# Altium footprint library Inductors.PcbLib: 21 footprints (part 2 of 2)
Each footprint in its own frame and in the unit in brackets; x right, y up, seen from the top. Pads: shape width x height; smd on the part's side, far side on the other; paste and mask are expansions set on the pad; w line width, h text height; cw(c..) or ccw(c..) is an arc to the next point about the centre after c.
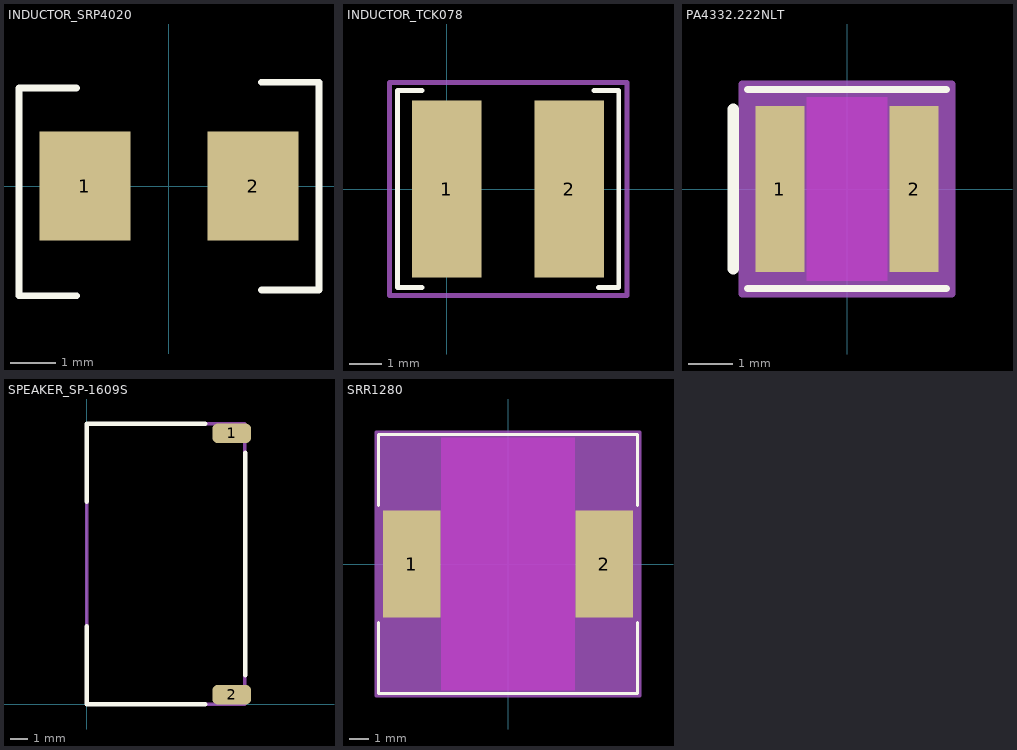
[diagram p1: the footprints below, top view; thin cyan lines are the x and y axes]

## INDUCTOR_SRP4020 [mm] "Bournes SRP4020TA-150M"
pads (2):
  rect 2x2.4 smd: 1(-1.85,0) 2(1.85,0)
Top Overlay:
  lines w0.152: -2.032,-2.413 -3.302,-2.413 -3.302,2.159 -2.032,2.159 ; 2.032,-2.286 3.302,-2.286 3.302,2.286 2.032,2.286
3D body "User Library-SRP-4020 Inductor.step": height 1.96, standoff 0.01, extent -2.15,-2 2.15,2

## INDUCTOR_TCK078 [mm] "1.1 µH Unshielded Inductor 3.24 A 15mOhm Max Nonstandard"
pads (2):
  rect 2.15x5.5 smd: 1(0,0) 2(3.8,0)
Top Overlay:
  lines w0.152: -0.762,-3.048 -1.524,-3.048 -1.524,3.048 -0.762,3.048 ; 4.572,3.048 5.334,3.048 5.334,-3.048 4.699,-3.048
Mechanical 15:
  lines w0.152: -1.778,-3.302 -1.778,3.302 5.588,3.302 5.588,-3.302 -1.778,-3.302
3D body "IND_TCK-078_TRP.step": height 5.06, standoff 0, extent -1.25,-2.845 5.05,2.845

## PA4332.222NLT [mil]
pads (2):
  rect 43.1x146 smd paste+0 mask+0: 1(-58.95,0) 2(58.95,0)
Top Layer keep-out:
  region: -35.4,-80.5 -35.4,80.5 35.4,80.5 35.4,-80.5
Top Overlay:
  lines w6: -87.5,-87.5 87.5,-87.5 ; -87.5,87.5 87.5,87.5
  lines w10: -100,-70 -100,70
Mechanical 13:
  lines w1: -82.5,-82.5 -82.5,82.5 82.5,82.5 82.5,-82.5 -82.5,-82.5
Mechanical 15:
  region: -92.5,-83 -92.5,83 -92.5,92.5 92.5,92.5 92.5,83 92.5,-83 92.5,-92.5 -92.5,-92.5
  lines w6: -92.5,-92.5 92.5,-92.5 92.5,-83 92.5,83 92.5,92.5 -92.5,92.5 -92.5,83 -92.5,-83 -92.5,-92.5
3D body "IND_PA4332222NLT_PUL.step": height 79.02, standoff 0, extent -82.52,-82.6 82.52,82.6

## SPEAKER_SP-1609S [mm]
height 4.3
pads (2):
  rrect50% 2.2x1.1 smd: 1(8.255,15.45) 2(8.255,0.55)
Top Overlay:
  lines w0.254: 0,4.445 0,0 6.731,0 ; 0,11.557 0,16.002 6.731,16.002 ; 9.017,1.651 9.017,14.351
Mechanical 5:
  lines w0.2: 0,0 9,0 9,16 0,16 0,0
3D body "SP-1609S.step": height 0, standoff -3.6, extent 0,0 9,18.9

## SRR1280 [mil]
pads (2):
  rect 114x213 smd paste+0 mask+0: 1(-191,0) 2(191,0)
Top Layer keep-out:
  region: -132,-250 -132,250 132,250 132,-250
Top Overlay:
  lines w6: -257,-116.02 -257,-257 257,-257 257,-116.02 ; -257,116.02 -257,257 257,257 257,116.02
Mechanical 13:
  lines w1: -252,-252 -252,252 252,252 252,-252 -252,-252
Mechanical 15:
  region: -262,-116.5 -262,116.5 -262,262 262,262 262,116.5 262,-116.5 262,-262 -262,-262
  lines w6: -262,-262 262,-262 262,-116.5 262,116.5 262,262 -262,262 -262,116.5 -262,-116.5 -262,-262
3D body "IND_BOURNS_SRR1280.step": height 315, standoff 0, extent -252.01,-252.09 252.01,252.09